# Altium footprint library Miscellaneous.PcbLib: 24 footprints (part 2 of 2)
Each footprint in its own frame and in the unit in brackets; x right, y up, seen from the top. Pads: shape width x height; smd on the part's side, far side on the other; paste and mask are expansions set on the pad; w line width, h text height; cw(c..) or ccw(c..) is an arc to the next point about the centre after c.
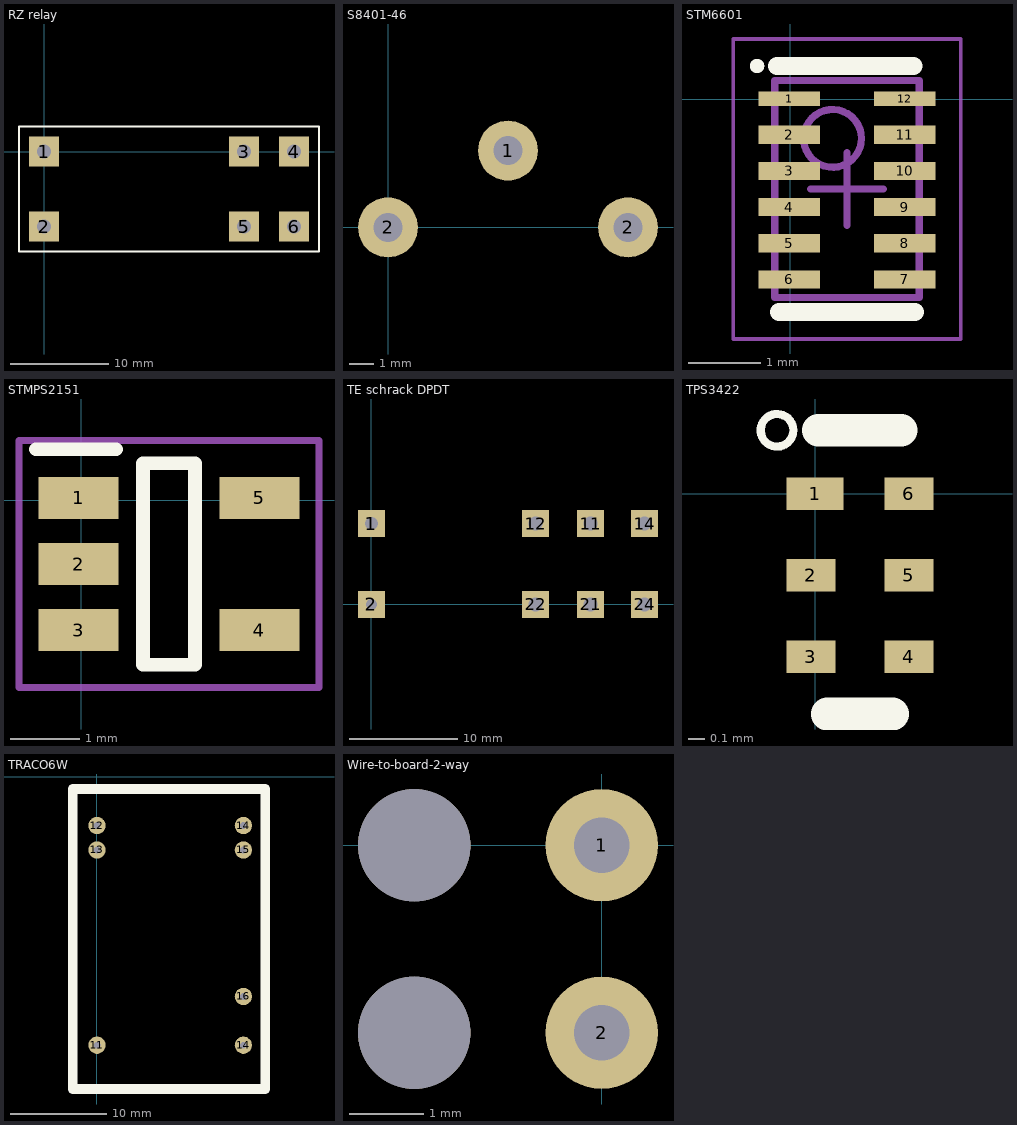
[diagram p1: the footprints below, top view; thin cyan lines are the x and y axes]

## RZ relay [mm] "RZ03-1C4-D005"
height 15.7
pads (6):
  rect 3x3 hole 1.4: 1(0,0) 2(0,-7.62) 3(20.32,0) 4(25.4,0) 5(20.32,-7.62) 6(25.4,-7.62)
Top Overlay:
  lines w0.2: -2.54,-10.16 -2.54,2.54 27.94,2.54 27.94,-10.16 -2.54,-10.16

## S8401-46 [mm] "Coin cell holder - vertical"
height 17
pads (3):
  round 2.5 hole 1.2: 1(5,3.2) 2(0,0) 2(10,0)
3D body "s8401-46_asm.stp": height 17.23, standoff -2.87, extent -6.45,-1.5 16.45,4.8

## STM6601 [mm] "Push button on/off control for uC"
height 0.8
pads (12):
  rect 0.85x0.2 smd: 1(-0.013,0.005) 12(1.587,0.005)
  rect 0.85x0.25 smd: 2(-0.013,-0.495) 3(-0.013,-0.995) 4(-0.013,-1.495) 5(-0.013,-1.995) 6(-0.013,-2.495) 7(1.587,-2.495) 8(1.587,-1.995) 9(1.587,-1.495) 10(1.587,-0.995) 11(1.587,-0.495)
Top Overlay:
  circle w0.1: c-0.457,0.457 r0.05
  lines w0.254: -0.178,0.457 1.702,0.457 ; -0.152,-2.946 1.727,-2.946
Mechanical 13:
  circle w0.1: c0.587,-0.545 r0.4
  lines w0.1: -0.213,-2.745 1.787,-2.745 1.787,0.255 -0.213,0.255 -0.213,-2.745
Mechanical 15:
  lines w0.05: -0.788,-3.32 2.362,-3.32 2.362,0.83 -0.788,0.83 -0.788,-3.32
  lines w0.1: 0.287,-1.245 1.287,-1.245 ; 0.787,-1.745 0.787,-0.745
3D body: height 0.8, standoff 0, extent -0.213,-2.745 1.787,0.255

## STMPS2151 [mm] "Enhanced single channel power switches"
height 2
pads (5):
  rect 1.15x0.6 smd: 1(-0.035,0.031) 2(-0.035,-0.919) 3(-0.035,-1.869) 4(2.565,-1.869) 5(2.565,0.031)
Top Overlay:
  lines w0.2: -0.647,0.732 0.503,0.732 ; 0.89,-2.369 0.89,0.531 1.64,0.531 1.64,-2.369 0.89,-2.369
Mechanical 15:
  lines w0.1: -0.894,-2.697 -0.894,0.859 3.424,0.859 3.424,-2.697 -0.894,-2.697
3D body "STMPS2151STR.stp": height 1.45, standoff 0, extent -0.135,-2.369 2.665,0.531

## TE schrack DPDT [mm] "DPDT relay"
pads (8):
  rect 2.5x2.5 hole 1.2: 1(0,7.5)
  rect 2.5x2.5 hole 1: 2(0,0)
  rect 2.5x2.5 hole 1.3: 11(20.3,7.5) 12(15.2,7.5) 14(25.3,7.5) 21(20.3,0) 22(15.2,0) 24(25.3,0)
3D body "TE schrack DPDT.stp": height 2.6, standoff -16.7, extent -2.2,-2.5 26.8,10.2

## TPS3422 [mm] "Push button controller"
pads (6):
  rect 0.35x0.2 smd paste+0 mask+0.051: 1(0,0)
  rect 0.3x0.2 smd paste+0 mask+0.051: 2(-0.025,-0.5) 3(-0.025,-1) 4(0.575,-1) 5(0.575,-0.5) 6(0.575,0)
Top Overlay:
  circle w0.05: c-0.233,0.389 r0.1
  lines w0.2: 0.021,0.389 0.529,0.389 ; 0.075,-1.35 0.475,-1.35
3D body "TPS3422.stp": height 0.6, standoff 0, extent -0.23,-1.225 0.77,0.225

## TRACO6W [mm] "traco 5WI series 6W"
height 11
pads (7):
  round 1.8 hole 0.7: 11(0,-27.94) 12(0,-5.08) 13(0,-7.62) 14(15.24,-27.94) 14(15.24,-5.08) 15(15.24,-7.62) 16(15.24,-22.86)
Top Overlay:
  lines w1: -2.5,-32.5 -2.5,-1.27 17.5,-1.27 17.5,-32.5 -2.5,-32.5

## Wire-to-board-2-way [mil] "Two wires to the board with strain relief"
pads (4):
  round 60 hole 29.53: 1(0,0) 2(0,-100)
  round 60 hole 60: ""(-100,-100) ""(-100,0)